# Altium schematic symbol library BAT20JFILM.SchLib: 1 symbol
Pins are listed as number, name and electrical type; pins without a type are passive.

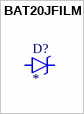
[diagram p0: symbol BAT20JFILM]

## BAT20JFILM
designator D?
23V, 1A Schottky diode, SOD-323 package; MF: {'manufacturer': u'STMicroelectronics'}; MP: BAT20JFILM; Package: None; Price: None; Value: *; Availability: Unavailable
footprint SOD-323
pins: A, C